# Altium schematic symbol library Module.SchLib: 19 symbols
Pins are listed as number, name and electrical type; pins without a type are passive.

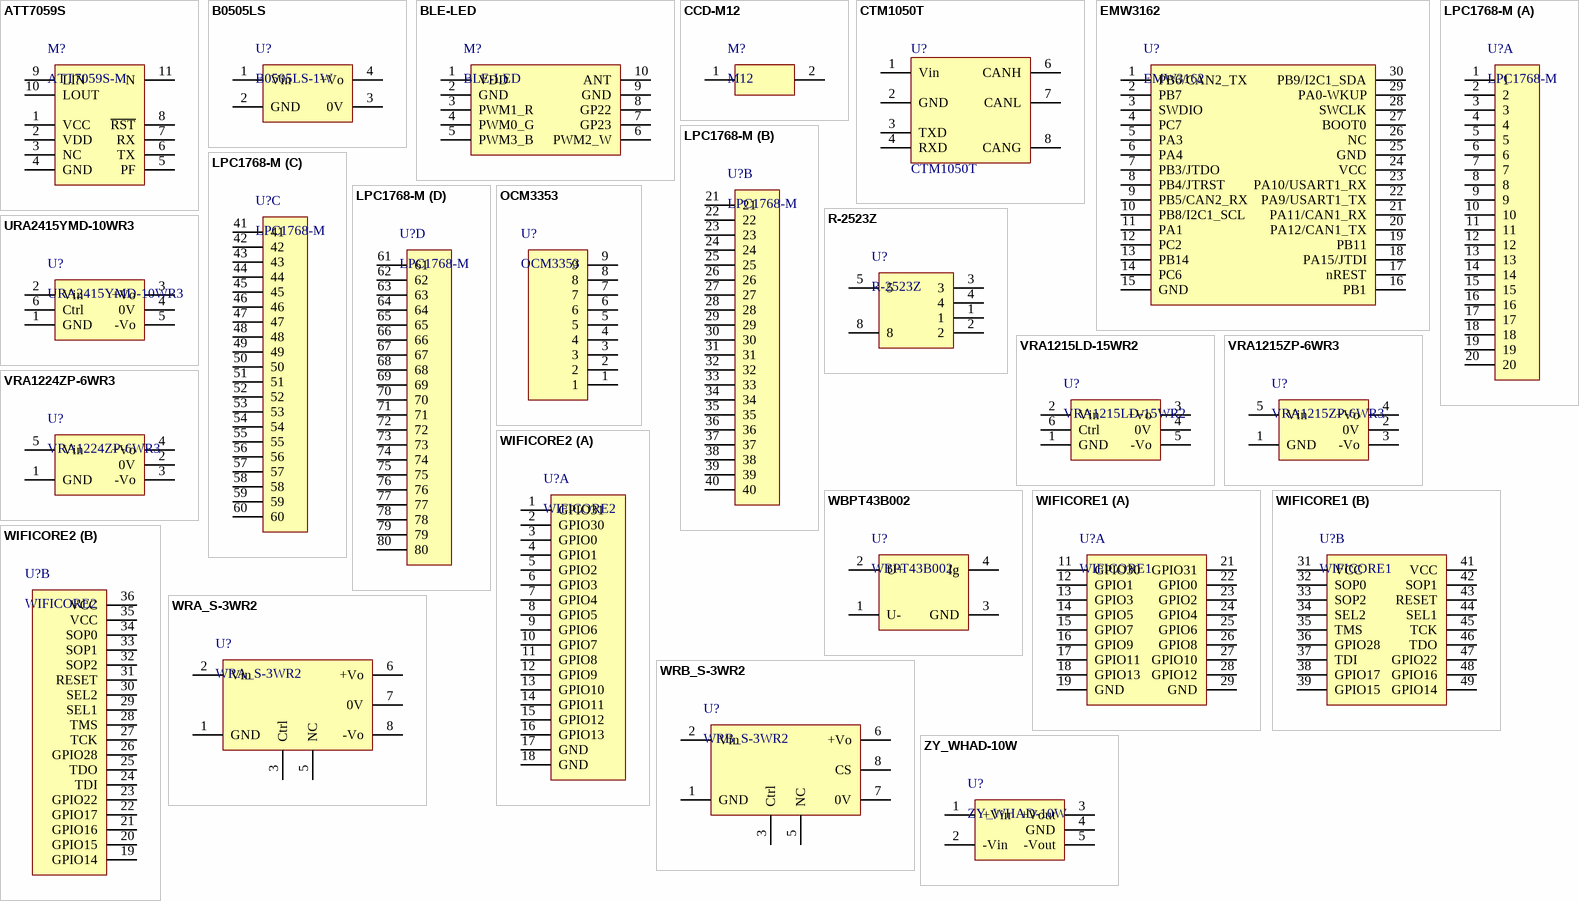
[diagram p0: symbols ATT7059S to ZY_WHAD-10W]

## ATT7059S
designator M?, comment ATT7059S-M
footprint ATT7059S-M1
pins: 1 VCC, 2 VDD, 3 NC, 4 GND, 5 PF, 6 TX, 7 RX, 8 ~{RST}, 9 LIN, 10 LOUT, 11 N

## B0505LS
designator U?, comment B0505LS-1W
B0505LS
footprint B0505LS (DC-DC 5V-5V B0505LS-1W)
pins: 1 Vin, 2 GND, 3 0V, 4 +Vo

## BLE-LED
designator M?
footprint RGB-LED
pins: 1 VDD, 2 GND, 3 PWM1_R, 4 PWM0_G, 5 PWM3_B, 6 PWM2_W, 7 GP23, 8 GP22, 9 GND, 10 ANT

## CCD-M12
designator M?, comment M12
footprint CCD-M12-20
footprint CCD-M12-18
pins: 1, 2

## CTM1050T
designator U?
footprint CTM1050T (zlg can module)
pins: 1 Vin, 2 GND, 3 TXD, 4 RXD, 6 CANH, 7 CANL, 8 CANG

## EMW3162
designator U?
footprint EMW3162
pins: 1 PB6/CAN2_TX, 2 PB7, 3 SWDIO, 4 PC7, 5 PA3, 6 PA4, 7 PB3/JTDO, 8 PB4/JTRST, 9 PB5/CAN2_RX, 10 PB8/I2C1_SCL, 11 PA1, 12 PC2, 13 PB14, 14 PC6, 15 GND, 16 PB1, 17 nREST, 18 PA15/JTDI, 19 PB11, 20 PA12/CAN1_TX, 21 PA11/CAN1_RX, 22 PA9/USART1_TX, 23 PA10/USART1_RX, 24 VCC, 25 GND, 26 NC, 27 BOOT0, 28 SWCLK, 29 PA0-WKUP, 30 PB9/I2C1_SDA

## LPC1768-M
designator U?
LPC1758 Module
footprint LPC1758-M (LPC1758 Module)
footprint LPC1758-M1 (LPC1758 Module)
part A pins: 1, 2, 3, 4, 5, 6, 7, 8, 9, 10, 11, 12, 13, 14, 15, 16, 17, 18, 19, 20
part B pins: 21, 22, 23, 24, 25, 26, 27, 28, 29, 30, 31, 32, 33, 34, 35, 36, 37, 38, 39, 40
part C pins: 41, 42, 43, 44, 45, 46, 47, 48, 49, 50, 51, 52, 53, 54, 55, 56, 57, 58, 59, 60
part D pins: 61, 62, 63, 64, 65, 66, 67, 68, 69, 70, 71, 72, 73, 74, 75, 76, 77, 78, 79, 80

## OCM3353
designator U?
footprint OCM3353
pins: 1, 2, 3, 4, 5, 6, 7, 8, 9

## R-2523Z
designator U?
footprint R-2523Z
pins: 1, 2, 3, 4, 5, 8

## URA2415YMD-10WR3
designator U?
footprint URA2415YMD-10WR3
pins: 1 GND, 2 Vin, 3 +Vo, 4 0V, 5 -Vo, 6 Ctrl

## VRA1215LD-15WR2
designator U?
DC/DC Power Module  IN 12V  OUT +15 -15 15W  MORNSUN
footprint VRA(B)_LD-15(20)WR2 (DC/DC Power Module  IN 12V  OUT +15 -15 15W  MORNSUN)
pins: 1 GND, 2 Vin, 3 +Vo, 4 0V, 5 -Vo, 6 Ctrl

## VRA1215ZP-6WR3
designator U?
DC/DC Power Module  IN 12V  OUT +15 -15 6W  MORNSUN
footprint VRA_ZP-6WR3 (DC/DC Power Module  MORNSUN VRA_ZP-6WR3)
pins: 1 GND, 2 0V, 3 -Vo, 4 +Vo, 5 Vin

## VRA1224ZP-6WR3
designator U?
DC/DC Power Module  IN 12V  OUT +24 -24  6W  MORNSUN
footprint VRA_ZP-6WR3 (DC/DC Power Module  MORNSUN VRA_ZP-6WR3)
pins: 1 GND, 2 0V, 3 -Vo, 4 +Vo, 5 Vin

## WBPT43B002
designator U?
footprint WBPT43B002
pins: 1 U-, 2 U+, 3 GND, 4 Ig

## WIFICORE1
designator U?
zicreate Wifi Core 1
footprint WIFICORE1 (zicreate wifi core 1)
part A pins: 11 GPIO30, 12 GPIO1, 13 GPIO3, 14 GPIO5, 15 GPIO7, 16 GPIO9, 17 GPIO11, 18 GPIO13, 19 GND, 21 GPIO31, 22 GPIO0, 23 GPIO2, 24 GPIO4, 25 GPIO6, 26 GPIO8, 27 GPIO10, 28 GPIO12, 29 GND
part B pins: 31 VCC, 32 SOP0, 33 SOP2, 34 SEL2, 35 TMS, 36 GPIO28, 37 TDI, 38 GPIO17, 39 GPIO15, 41 VCC, 42 SOP1, 43 RESET, 44 SEL1, 45 TCK, 46 TDO, 47 GPIO22, 48 GPIO16, 49 GPIO14

## WIFICORE2
designator U?
zicreate Wifi Core 2
footprint WIFICORE2 (zicreate wifi core 2)
part A pins: 1 GPIO31, 2 GPIO30, 3 GPIO0, 4 GPIO1, 5 GPIO2, 6 GPIO3, 7 GPIO4, 8 GPIO5, 9 GPIO6, 10 GPIO7, 11 GPIO8, 12 GPIO9, 13 GPIO10, 14 GPIO11, 15 GPIO12, 16 GPIO13, 17 GND, 18 GND
part B pins: 19 GPIO14, 20 GPIO15, 21 GPIO16, 22 GPIO17, 23 GPIO22, 24 TDI, 25 TDO, 26 GPIO28, 27 TCK, 28 TMS, 29 SEL1, 30 SEL2, 31 RESET, 32 SOP2, 33 SOP1, 34 SOP0, 35 VCC, 36 VCC

## WRA_S-3WR2
designator U?
footprint WRA/B_S-3WR2 (WRA_S-3WR2,WRB_S-3WR2)
pins: 1 GND, 2 Vin, 3 Ctrl, 5 NC, 6 +Vo, 7 0V, 8 -Vo

## WRB_S-3WR2
designator U?
footprint WRA/B_S-3WR2 (WRA_S-3WR2,WRB_S-3WR2)
pins: 1 GND, 2 Vin, 3 Ctrl, 5 NC, 6 +Vo, 7 0V, 8 CS

## ZY_WHAD-10W
designator U?
footprint ZY_WRAD-10W (12V   +24V -24V)
pins: 1 +Vin, 2 -Vin, 3 +Vout, 4 GND, 5 -Vout